# EAGLE library part 6120XX20621_61202420621 (library Eagle_WR-BHD (rev21a))
WR-BHD 2.54 mm Male SMT Box Header KIND PROPERTIES: Pitch 2.54 mm Gender:Male MATERIAL PROPERTIES: Insulator Material:PA6T Insulator Flammability Rating UL94 V-0 Insulator Color:Black Contact Material :Copper Alloy Contact Plating :Gold Contact Type: Stamped GENERAL INFORMATION: Operating Temperature:-40 °C up to +125 °C Compliance:RoHS Working Voltage: 250 V (AC) Withstanding Voltage:500 V (AC) Contact Resistance: 20 mΩ Insulation Resistance:1000 MΩ CERTIFICATION: UL Approval:E323964 PACKAGING PROPERTIES Packaging :Tube <https://www.we-online.de/katalog/media/o32919v209%20Family_WR-BHD_612xxx20621.jpg> Details see: https://www.we-online.de/katalog/en/em/BHD_2_54_SMT_MALE_BOX_HEADER_6120XX20621 Updated by Yingchun,Shan 2019-10-30 2019 (C) Würth Elektronik
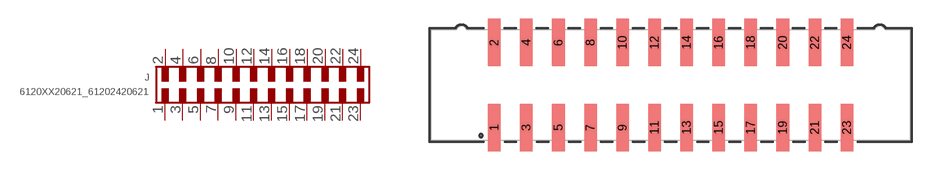
[diagram p45: symbol with the pads of 61202420621; footprint 61202420621]

Designator prefix J

## 6120XX20621_61202420621 (CONTACT-RESISTANCE: 20mOhm; DATASHEET-URL: https://www.we-online.com/catalog/datasheet/61202420621.pdf; GENDER: Male; IR: 3A; L: 38.28mm; MOUNT: SMT; PACKAGING: Tube; PART-NUMBER: 61202420621; PINS: 24; PITCH: 2.54mm; TYPE: Straight; VALUE: 61202420621; WORKING-VOLTAGE: 250V(AC))  [61202420621]
1  1  pas
2  2  pas
3  3  pas
4  4  pas
5  5  pas
6  6  pas
7  7  pas
8  8  pas
9  9  pas
10  10  pas
11  11  pas
12  12  pas
13  13  pas
14  14  pas
15  15  pas
16  16  pas
17  17  pas
18  18  pas
19  19  pas
20  20  pas
21  21  pas
22  22  pas
23  23  pas
24  24  pas

## Footprint 61202420621 (pad centres in mm)
WR-BHD 2.54 mm Male SMT Box Header, 24 pins
smd 1 x 3.75: 1 -13.97,-3.375; 2 -13.97,3.375; 3 -11.43,-3.375; 4 -11.43,3.375; 5 -8.89,-3.375; 6 -8.89,3.375; 7 -6.35,-3.375; 8 -6.35,3.375; 9 -3.81,-3.375; 10 -3.81,3.375; 11 -1.27,-3.375; 12 -1.27,3.375; 13 1.27,-3.375; 14 1.27,3.375; 15 3.81,-3.375; 16 3.81,3.375; 17 6.35,-3.375; 18 6.35,3.375; 19 8.89,-3.375; 20 8.89,3.375; 21 11.43,-3.375; 22 11.43,3.375; 23 13.97,-3.375; 24 13.97,3.375